# Altium schematic symbol library dianfazhan.SchLib: 34 symbols
Pins are listed as number, name and electrical type; pins without a type are passive.

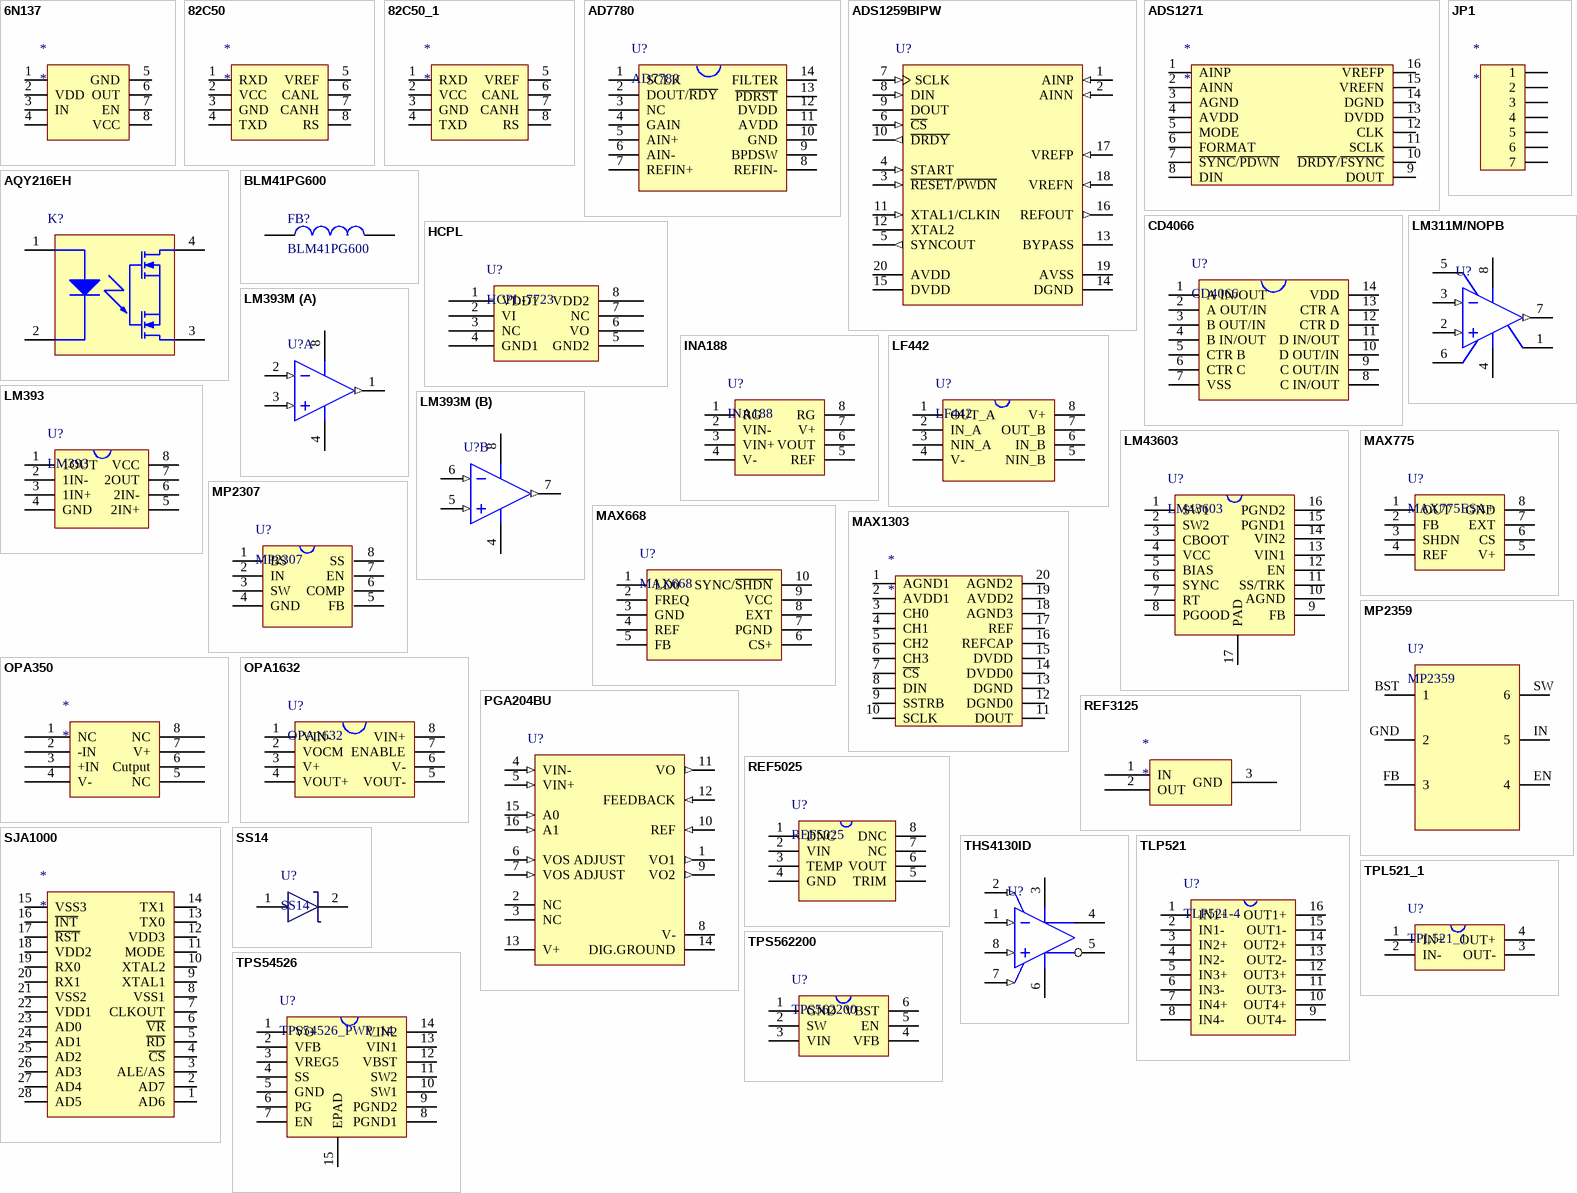
[diagram p0: symbols 6N137 to TPS562200]

## 6N137
designator *
pins: 1, 2 VDD, 3 IN, 4, 5 GND, 6 OUT, 7 EN, 8 VCC

## 82C50
designator *
pins: 1 RXD, 2 VCC, 3 GND, 4 TXD, 5 VREF, 6 CANL, 7 CANH, 8 RS

## 82C50_1
designator *
pins: 1 RXD, 2 VCC, 3 GND, 4 TXD, 5 VREF, 6 CANL, 7 CANH, 8 RS

## AD7780
designator U?
footprint SOIC_14
pins: 1 SCLK, 2 DOUT/~{RDY}, 3 NC, 4 GAIN, 5 AIN+, 6 AIN-, 7 REFIN+, 8 REFIN-, 9 BPDSW, 10 GND, 11 AVDD, 12 DVDD, 13 ~{PDRST}, 14 FILTER

## ADS1259BIPW
designator U?
Low-Noise, 14 kSPS, 24-Bit ADC, -40 to 105 degC, 20-pin SOP (PW20), Green (RoHS & no Sb/Br); Manufacturer: Texas Instruments; PartNumber: ADS1259BIPW; # Input Channels: 1; Analog Voltage AV/DD(Max)(V): 5.25; Analog Voltage AV/DD(Min)(V): 4.75; Architecture: Delta-Sigma; Digital Supply(Min)(V): 2.7; Interface: Serial SPI; Resolution(Bits): 24; Sample Rate (max)(SPS): 14.4K; SubFamily: Precision ADC (<=10MSPS); DatasheetVersion: SBAS424D; PackageVersion: 4040064-5/G, 02/2011; PackageReference: PW20; PackageDescription: 20-Pin Plastic Small Outline, Body 6.5 x 4.4 mm, Pitch 0.65 mm; Supplier 1: Digi-Key; Supplier Part Number 1: TLC3548IPWRG4-ND; Supplier 2: Mouser; Supplier Part Number 2: 595-TLC3548IPWRG4; Digital Supply(Max)(V): 5.25; Eco-Plan: Green (RoHS & no Sb/Br); Mounting Technology: Surface Mount; Code_JEDEC: MO-153; ComponentLink1Description: Manufacturer URL; ComponentLink1URL: http://www.ti.com/; ComponentLink2Description: Datasheet; ComponentLink2URL: http://www.ti.com/general/docs/lit/getliterature.tsp?genericPartNumber=ADS1259&fileType=pdf; ComponentLink3Description: Package Specification; ComponentLink3URL: http://www.ti.com.cn/cn/lit/ml/mpds362/mpds362.pdf
footprint TI-PW20_N (SOP, 20-Leads, Body 6.5x4.4mm, Pitch 0.65mm, IPC Medium Density)
footprint TI-PW20_L (SOP, 20-Leads, Body 6.5x4.4mm, Pitch 0.65mm, IPC High Density)
footprint TI-PW20_M (SOP, 20-Leads, Body 6.5x4.4mm, Pitch 0.65mm, IPC Low Density)
pins: 1 AINP (in) "Positive analog input", 2 AINN (in) "Negative analog input", 3 ~{RESET}/~{PWDN} (in), 4 START (in) "Start conversions, active high", 5 SYNCOUT (out) "Sync clock output (fCLK/8)", 6 ~{CS} (in) "SPI chip-select, active low", 7 SCLK (in) "SPI clock input", 8 DIN (in) "SPI data input", 9 DOUT (hiz) "SPI data output", 10 ~{DRDY} (out) "Data ready output, active low", 11 XTAL1/CLKIN (in), 12 XTAL2 "External crystal2, otherwise no connection", 13 BYPASS "Core voltage bypass", 14 DGND (power) "Digital ground", 15 DVDD (power) "Digital power supply", 16 REFOUT (out) "Positive reference output", 17 VREFP (in) "Positive reference input", 18 VREFN (in) "Negative reference input", 19 AVSS (power) "Negative analog power supply and negative reference output", 20 AVDD (power) "Positive analog power supply"

## ADS1271
designator *
pins: 1 AINP, 2 AINN, 3 AGND, 4 AVDD, 5 MODE, 6 FORMAT, 7 ~{S}~{YNC}/~{PDWN}, 8 DIN, 9 DOUT, 10 ~{DRDY}/~{FSYNC}, 11 SCLK, 12 CLK, 13 DVDD, 14 DGND, 15 VREFN, 16 VREFP

## AQY216EH
designator K?
PhotoMOS GE 1 Form A, 600 V Load Voltage, 0.05 A Continuous Load Current, -40 to 85 degC, 4-Pin DIP, Tube, RoHS; Manufacturer: Panasonic; PartNumber: AQY216EH; Continuous Load Current: 0.05 A; Load Voltage: 600 V; On Resistance (Typ): 52 Ohm; Pb-Free: True; DatasheetVersion: 201404-T; PackageVersion: ASCTB67E, 04/2014; PackageReference: DIP4; PackageDescription: 4-Pin Through Hole Terminal Package, Body 4.78 x 6.4 mm, Pitch 2.54 mm; Supplier 1: Mouser; Supplier Part Number 1: 769-AQY216EH; Supplier 2: Digi-Key; Supplier Part Number 2: AQY216EH-ND; Packing: Tube; RoHS: True; Series: PhotoMOS GE 1 Form A; Mounting Technology: Through Hole; ComponentLink1Description: Manufacturer URL; ComponentLink1URL: http://www3.panasonic.biz/ac/ae/index.jsp; ComponentLink2Description: Datasheet; ComponentLink2URL: http://www3.panasonic.biz/ac/e_download/control/relay/photomos/catalog/semi_eng_ge1a_aqy21_e.pdf; ComponentLink3Description: Package Specification; ComponentLink3URL: http://www3.panasonic.biz/ac/e_download/control/relay/photomos/catalog/semi_eng_dimensions.pdf?f_cd=401560
footprint PNSC-DIP4_V (DIP, 4-Leads, Body 6.45x4.83mm, Pitch2.54 mm)
pins: 1, 2, 3, 4

## BLM41PG600
designator FB?
footprint FB_MD
pins: 1, 2

## CD4066
designator U?
footprint R-PDSO-G14
pins: 1 A IN/OUT, 2 A OUT/IN, 3 B OUT/IN, 4 B IN/OUT, 5 CTR B, 6 CTR C, 7 VSS, 8 C IN/OUT, 9 C OUT/IN, 10 D OUT/IN, 11 D IN/OUT, 12 CTR D, 13 CTR A, 14 VDD

## HCPL
designator U?, comment HCPL-7723
pins: 1 VDD1, 2 VI, 3 NC, 4 GND1, 5 GND2, 6 VO, 7 NC, 8 VDD2

## INA188
designator U?
footprint SOIC-8
pins: 1 RG, 2 VIN-, 3 VIN+, 4 V-, 5 REF, 6 VOUT, 7 V+, 8 RG

## JP1
designator *
pins: 1, 2, 3, 4, 5, 6, 7

## LF442
designator U?
footprint R-DIP-T8
pins: 1 OUT_A, 2 IN_A, 3 NIN_A, 4 V-, 5 NIN_B, 6 IN_B, 7 OUT_B, 8 V+

## LM311M/NOPB
designator U?
Voltage Comparator, 8-pin Narrow SOIC, Pb-Free; PartNumber: LM311M/NOPB; Manufacturer: National Semiconductor; PackageTopMarking: NSZXTT*LM*311M; PowerWise: N; CompType: Amplifiers; High-Reliability: Y; DatasheetVersion: Jan-2001; PackageVersion: revM, May-2009; PackageReference: M08A; PackageDescription: SOIC Narrow, 4.9 x 3.9 x 1.45mm, 8 Lead, 1.27mm Pitch; RoHS: Y; PinCount: 8; Code_JEDEC: MS-012-AA; Code_IPC: SOIC127P600-8; ComponentLink1Description: Manufacturer URL; ComponentLink1URL: http://www.national.com/; ComponentLink2Description: LM311 Datasheet; ComponentLink2URL: http://www.national.com/ds/LM/LM311.pdf; ComponentLink3Description: LM311 Web Page; ComponentLink3URL: http://www.national.com/pf/LM/LM311.html; ComponentLink4Description: M08A Package Page; ComponentLink4URL: http://www.national.com/packaging/folders/m08a.html
footprint M08A_N (SOIC, 8-Leads, Body 4.9x3.9mm, Pitch 1.27mm, IPC Medium Density)
footprint M08A_L (SOIC, 8-Leads, Body 4.9x3.9mm, Pitch 1.27mm, IPC High Density)
footprint M08A_M (SOIC, 8-Leads, Body 4.9x3.9mm, Pitch 1.27mm, IPC Low Density)
pins: 1 GND (power), 2 IN+ (in), 3 IN- (in), 4 V- (power), 5 BAL, 6 BAL/STB, 7 OUT (out), 8 V+ (power)

## LM393
designator U?
footprint R-PDSO-G8
pins: 1 1OUT, 2 1IN-, 3 1IN+, 4 GND, 5 2IN+, 6 2IN-, 7 2OUT, 8 VCC

## LM393M
designator U?
Low Power Low Offset Voltage Dual Comparator, 8-pin Narrow SOIC; PartNumber: LM393M; Manufacturer: National Semiconductor; PackageTopMarking: NSZXTT*LM*393M; PowerWise: N; CompType: Amplifiers; High-Reliability: Y; DatasheetVersion: Aug-2002; PackageVersion: revM, May-2009; PackageReference: M08A; PackageDescription: SOIC Narrow, 4.9 x 3.9 x 1.45mm, 8 Lead, 1.27mm Pitch; RoHS: N; PinCount: 8; Code_JEDEC: MS-012-AA; Code_IPC: SOIC127P600-8; ComponentLink1Description: Manufacturer URL; ComponentLink1URL: http://www.national.com/; ComponentLink2Description: LM393 Datasheet; ComponentLink2URL: http://www.national.com/ds/LM/LM393.pdf; ComponentLink3Description: LM393 Web Page; ComponentLink3URL: http://www.national.com/pf/LM/LM393.html; ComponentLink4Description: M08A Package Page; ComponentLink4URL: http://www.national.com/packaging/folders/m08a.html
footprint M08A_N (SOIC, 8-Leads, Body 4.9x3.9mm, Pitch 1.27mm, IPC Medium Density)
footprint M08A_L (SOIC, 8-Leads, Body 4.9x3.9mm, Pitch 1.27mm, IPC High Density)
footprint M08A_M (SOIC, 8-Leads, Body 4.9x3.9mm, Pitch 1.27mm, IPC Low Density)
pins on every part: 4 GND (power), 8 V+ (power)
part A pins: 1 OUTA (out), 2 INA- (in), 3 INA+ (in)
part B pins: 5 INB+ (in), 6 INB- (in), 7 OUTB (out)

## LM43603
designator U?
pins: 1 SW1, 2 SW2, 3 CBOOT, 4 VCC, 5 BIAS, 6 SYNC, 7 RT, 8 PGOOD, 9 FB, 10 AGND, 11 SS/TRK, 12 EN, 13 VIN1, 14 VIN2, 15 PGND1, 16 PGND2, 17 PAD

## MAX668
designator U?
footprint 10LUMAXB
pins: 1 LD0, 2 FREQ, 3 GND, 4 REF, 5 FB, 6 CS+, 7 PGND, 8 EXT, 9 VCC, 10 SYNC/~{SH}~{DN}

## MAX775
designator U?, comment MAX775ESA+
footprint 8 SO
pins: 1 OUT, 2 FB, 3 SHDN, 4 REF, 5 V+, 6 CS, 7 EXT, 8 GND

## MAX1303
designator *
pins: 1 AGND1, 2 AVDD1, 3 CH0, 4 CH1, 5 CH2, 6 CH3, 7 ~{CS}, 8 DIN, 9 SSTRB, 10 SCLK, 11 DOUT, 12 DGND0, 13 DGND, 14 DVDD0, 15 DVDD, 16 REFCAP, 17 REF, 18 AGND3, 19 AVDD2, 20 AGND2

## MP2307
designator U?
footprint SOIC8N
pins: 1 BS, 2 IN, 3 SW, 4 GND, 5 FB, 6 COMP, 7 EN, 8 SS

## MP2359
designator U?
footprint SOT23-6
pins: BST 1, EN 4, FB 3, GND 2, IN 5, SW 6

## OPA350
designator *
pins: 1 NC, 2 -IN, 3 +IN, 4 V-, 5 NC, 6 Cutput, 7 V+, 8 NC

## OPA1632
designator U?
footprint S-PDSO-G8
pins: 1 VIN-, 2 VOCM, 3 V+, 4 VOUT+, 5 VOUT-, 6 V-, 7 ENABLE, 8 VIN+

## PGA204BU
designator U?
Programmable Gain Instrumentation Amplifier, -40 to 85 degC, 16-pin SOIC (DW16), Green (RoHS & no Sb/Br); Manufacturer: Texas Instruments; PartNumber: PGA204BU; Common Mode Input High(Min)(V): 10.5; Common Mode Input Low(Min)(V): -10.5; Gain Error (+/-)(Max)(%): 0.024; Gain(V/V): 1, 10, 100, 1000; Input Bias Current (+/-)(Max)(nA): 2; Input Offset (+/-)(Max)(uV): 50; Input Offset Drift (+/-)(Max)(uV/Degrees Celsius): 0.25; Noise at 1kHz(Typ)(nV/rt(Hz)): 13; Non-Linearity (+/-)(Max)(%): 0.001; Number of Channels: 1; Quiescent Current (+/-)(Typ)(mA): 5.2; Settling Time to 0.01%(Typ)(us): 140; Slew Rate(Typ)(V/us): 0.7; SubFamily: Programmable Gain Amplifier; Vs(Max)(V): 36; Vs(Min)(V): 9; DatasheetVersion: SBOS022; PackageVersion: 4040000-2/G, 01/2011; PackageReference: DW16; PackageDescription: 16-Pin Plastic Small Outline, Body 10.30 x 7.50 mm, Pitch 1.27 mm; Supplier 1: Digi-Key; Supplier Part Number 1: PGA204BU-ND; Supplier 2: Farnell; Supplier Part Number 2: 1207094; Supplier 3: Newark; Supplier Part Number 3: 24M5804; Supplier 4: Newark; Supplier Part Number 4: 35C1958; Supplier 5: Mouser; Supplier Part Number 5: 595-PGA204BU; Eco-Plan: Green (RoHS & no Sb/Br); Mounting Technology: Surface Mount; Code_JEDEC: MS-013; ComponentLink1Description: Manufacturer URL; ComponentLink1URL: http://www.ti.com/; ComponentLink2Description: Datasheet; ComponentLink2URL: http://www.ti.com/general/docs/lit/getliterature.tsp?genericPartNumber=PGA204&fileType=pdf; ComponentLink3Description: Package Specification; ComponentLink3URL: http://www.ti.com/litv/pdf/msoi003g
footprint TI-DW16_N (SOIC, 16-Leads, Body 10.5x7.6mm, Pitch 1.27mm, IPC Medium Density)
footprint TI-DW16_L (SOIC, 16-Leads, Body 10.5x7.6mm, Pitch 1.27mm, IPC High Density)
footprint TI-DW16_M (SOIC, 16-Leads, Body 10.5x7.6mm, Pitch 1.27mm, IPC Low Density)
pins: 1 VO1 (out), 2 NC, 3 NC, 4 VIN- (in), 5 VIN+ (in), 6 VOS ADJUST (in), 7 VOS ADJUST (in), 8 V- (power), 9 VO2 (out), 10 REF (in), 11 VO (out), 12 FEEDBACK (in), 13 V+ (power), 14 DIG.GROUND (power), 15 A0 (in), 16 A1 (in)

## REF3125
designator *
pins: 1 IN, 2 OUT, 3 GND

## REF5025
designator U?
footprint R-PDSO-G8
pins: 1 DNC, 2 VIN, 3 TEMP, 4 GND, 5 TRIM, 6 VOUT, 7 NC, 8 DNC

## SJA1000
designator *
pins: 1 AD6, 2 AD7, 3 ALE/AS, 4 ~{CS}, 5 ~{RD}, 6 ~{VR}, 7 CLKOUT, 8 VSS1, 9 XTAL1, 10 XTAL2, 11 MODE, 12 VDD3, 13 TX0, 14 TX1, 15 VSS3, 16 ~{INT}, 17 ~{RST}, 18 VDD2, 19 RX0, 20 RX1, 21 VSS2, 22 VDD1, 23 AD0, 24 AD1, 25 AD2, 26 AD3, 27 AD4, 28 AD5

## SS14
designator U?
footprint SMA/DO-214AC
pins: 1, 2

## THS4130ID
designator U?
Fully Differential Input / Output Low Noise Amplifier with Shutdown, 5 to 30 V, -40 to 85 degC, 8-pin SOIC (D8), Green (RoHS & no Sb/Br); Manufacturer: Texas Instruments; PartNumber: THS4130ID; 2nd Harmonic(dBc): 88; 3rd Harmonic(dBc): 82; @ MHz: 1; BW @ Acl(MHz): 150; Io(Typ)(mA): 85; Iq per channel(Max)(mA): 16; Offset Voltage Drift (+/-)(Max)(uV/Degrees Celsius: 4.5; Settling Time (0.1%)(Typ)(ns): 78; Slew Rate(Typ)(V/us): 52; SubFamily: Fully Differential Amplifier; THD (Fc is 1 MHz)(Typ)(dB): -80; Vio(Max)(mV): 2; Vn at Flatband(Typ)(nV/rtHz): 1.3; Vs(Max)(V): 30; Vs(Min)(V): 5; DatasheetVersion: SLOS318H; PackageVersion: 4040047-3/M, 06/2011; PackageReference: D8; PackageDescription: 8-Pin Plastic Small Outline, Body 4.9 x 3.9 mm, Pitch 1.27 mm; Supplier 1: Digi-Key; Supplier Part Number 1: 296-7554-5-ND; Supplier 2: Farnell; Supplier Part Number 2: 1103108; Supplier 3: Newark; Supplier Part Number 3: 24M8257; Supplier 4: Newark; Supplier Part Number 4: 76C6405; Supplier 5: Mouser; Supplier Part Number 5: 595-THS4130ID; Eco-Plan: Green (RoHS & no Sb/Br); Number of Channels: 1; Mounting Technology: Surface Mount; Code_JEDEC: MS-012; ComponentLink1Description: Manufacturer URL; ComponentLink1URL: http://www.ti.com/; ComponentLink2Description: Datasheet; ComponentLink2URL: http://www.ti.com/general/docs/lit/getliterature.tsp?genericPartNumber=THS4130&fileType=pdf; ComponentLink3Description: Package Specification; ComponentLink3URL: http://www.ti.com/litv/pdf/msoi002j
footprint TI-D8_N (SOIC, 8-Leads, Body 4.9x3.9mm, Pitch 1.27mm, IPC Medium Density)
footprint TI-D8_L (SOIC, 8-Leads, Body 4.9x3.9mm, Pitch 1.27mm, IPC High Density)
footprint TI-D8_M (SOIC, 8-Leads, Body 4.9x3.9mm, Pitch 1.27mm, IPC Low Density)
pins: 1 VIN- (in), 2 VOCM (in), 3 VCC+ (power), 4 VOUT+ (hiz), 5 VOUT- (hiz), 6 VCC- (power), 7 ~{PD} (in), 8 VIN+ (in)

## TLP521
designator U?, comment TLP521-4
footprint 11-20A3
pins: 1 IN1+, 2 IN1-, 3 IN2+, 4 IN2-, 5 IN3+, 6 IN3-, 7 IN4+, 8 IN4-, 9 OUT4-, 10 OUT4+, 11 OUT3-, 12 OUT3+, 13 OUT2-, 14 OUT2+, 15 OUT1-, 16 OUT1+

## TPL521_1
designator U?
footprint 115B-1
pins: 1 IN+, 2 IN-, 3 OUT-, 4 OUT+

## TPS54526
designator U?, comment TPS54526_PWP_14
footprint HTSSOP
pins: 1 VO, 2 VFB, 3 VREG5, 4 SS, 5 GND, 6 PG, 7 EN, 8 PGND1, 9 PGND2, 10 SW1, 11 SW2, 12 VBST, 13 VIN1, 14 VIN2, 15 EPAD

## TPS562200
designator U?
footprint R-PDSO=-G6
pins: 1 GND, 2 SW, 3 VIN, 4 VFB, 5 EN, 6 VBST